# EAGLE library part SAMD21G (library atsamd21)
Atmel SAM D21G SMART ARM-Based Microcontroller
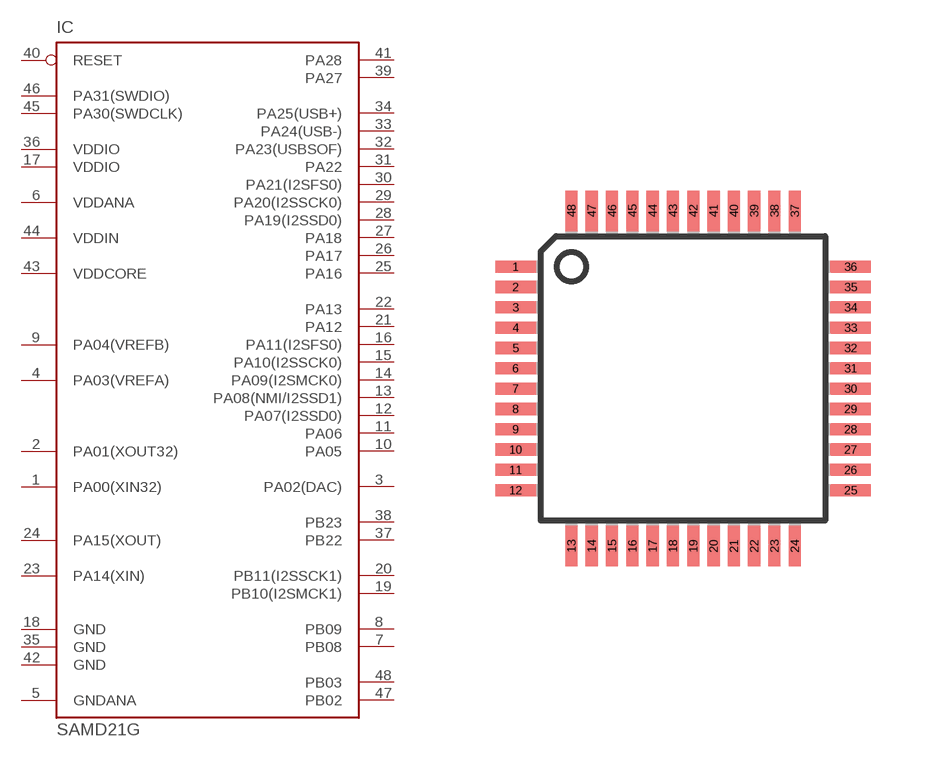
[diagram p0: symbol with the pads of TQFP48; footprint TQFP48]

Designator prefix IC

## SAMD21G  [TQFP48]
1  PA00(XIN32)
2  PA01(XOUT32)
3  PA02(DAC)
4  PA03(VREFA)
5  GNDANA  pwr
6  VDDANA  pwr
7  PB08
8  PB09
9  PA04(VREFB)
10  PA05
11  PA06
12  PA07(I2SSD0)
13  PA08(NMI/I2SSD1)
14  PA09(I2SMCK0)
15  PA10(I2SSCK0)
16  PA11(I2SFS0)
17  VDDIO  pwr
18  GND  pwr
19  PB10(I2SMCK1)
20  PB11(I2SSCK1)
21  PA12
22  PA13
23  PA14(XIN)
24  PA15(XOUT)
25  PA16
26  PA17
27  PA18
28  PA19(I2SSD0)
29  PA20(I2SSCK0)
30  PA21(I2SFS0)
31  PA22
32  PA23(USBSOF)
33  PA24(USB-)
34  PA25(USB+)
35  GND  pwr
36  VDDIO  pwr
37  PB22
38  PB23
39  PA27
40  RESET
41  PA28
42  GND  pwr
43  VDDCORE  pwr
44  VDDIN  pwr
45  PA30(SWDCLK)
46  PA31(SWDIO)
47  PB02
48  PB03

## Footprint TQFP48 (pad centres in mm)
Thin Plasic Quad Flat Package
smd 1.016 x 0.305: 1 -4.191,2.794; 2 -4.191,2.286; 3 -4.191,1.778; 4 -4.191,1.27; 5 -4.191,0.762; 6 -4.191,0.254; 7 -4.191,-0.254; 8 -4.191,-0.762; 9 -4.191,-1.27; 10 -4.191,-1.778; 11 -4.191,-2.286; 12 -4.191,-2.794; 25 4.191,-2.794; 26 4.191,-2.286; 27 4.191,-1.778; 28 4.191,-1.27; 29 4.191,-0.762; 30 4.191,-0.254; 31 4.191,0.254; 32 4.191,0.762; 33 4.191,1.27; 34 4.191,1.778; 35 4.191,2.286; 36 4.191,2.794
smd 0.305 x 1.016: 13 -2.794,-4.191; 14 -2.286,-4.191; 15 -1.778,-4.191; 16 -1.27,-4.191; 17 -0.762,-4.191; 18 -0.254,-4.191; 19 0.254,-4.191; 20 0.762,-4.191; 21 1.27,-4.191; 22 1.778,-4.191; 23 2.286,-4.191; 24 2.794,-4.191; 37 2.794,4.191; 38 2.286,4.191; 39 1.778,4.191; 40 1.27,4.191; 41 0.762,4.191; 42 0.254,4.191; 43 -0.254,4.191; 44 -0.762,4.191; 45 -1.27,4.191; 46 -1.778,4.191; 47 -2.286,4.191; 48 -2.794,4.191